# EAGLE library part TL084CN (library theremin)
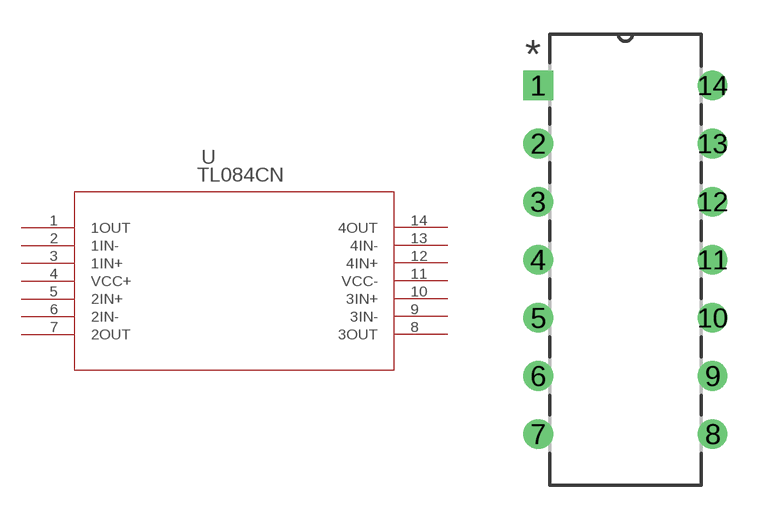
[diagram p4: symbol with the pads of N14; footprint N14]

Designator prefix U

## TL084CN (COPYRIGHT: Copyright (C) 2025 Ultra Librarian. All rights reserved.; MANUFACTURER_PART_NUMBER: TL084CN; MFR_NAME: Texas Instruments)  [N14]
1  1OUT  out
2  1IN-  in
3  1IN+  in
4  VCC+  pwr
5  2IN+  in
6  2IN-  in
7  2OUT  out
8  3OUT  out
9  3IN-  in
10  3IN+  in
11  VCC-  pwr
12  4IN+  in
13  4IN-  in
14  4OUT  out

## Footprint N14 (pad centres in mm)
drill 0.787 pad 1.295 square: 1 -7.62,15.24
drill 0.787 pad 1.295: 2 -7.62,12.7; 3 -7.62,10.16; 4 -7.62,7.62; 5 -7.62,5.08; 6 -7.62,2.54; 7 -7.62,0; 8 0,0; 9 0,2.54; 10 0,5.08; 11 0,7.62; 12 0,10.16; 13 0,12.7; 14 0,15.24